# Altium footprint library MDM-9.PcbLib: 1 footprints
Each footprint in its own frame and in the unit in brackets; x right, y up, seen from the top. Pads: shape width x height; smd on the part's side, far side on the other; paste and mask are expansions set on the pad; w line width, h text height; cw(c..) or ccw(c..) is an arc to the next point about the centre after c.
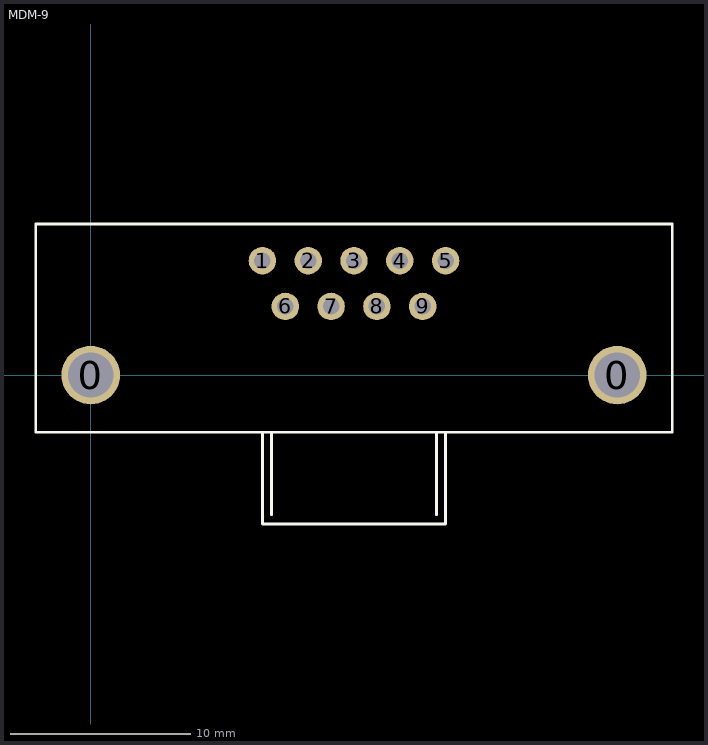
[diagram p0: the footprint, top view; thin cyan lines are the x and y axes]

## MDM-9 [mil]
pads (11):
  round 128 hole 98.43: 0(0,0) 0(1150,0)
  round 60 hole 36: 1(375,250) 2(475,250) 3(575,250) 4(675,250) 5(775,250) 6(425,150) 7(525,150) 8(625,150) 9(725,150)
TopOverlay:
  lines w6: 395,-305 395,-125 ; 755,-305 755,-125 ; -120,-125 -120,330 1270,330 1270,-125 -120,-125 ; 375,-325 375,-125 775,-125 775,-325 375,-325
3D body: height 307.87, standoff 0, extent -120,-120 1270,330